# EAGLE library part Z8 (library oldchips)
8-bit MCU
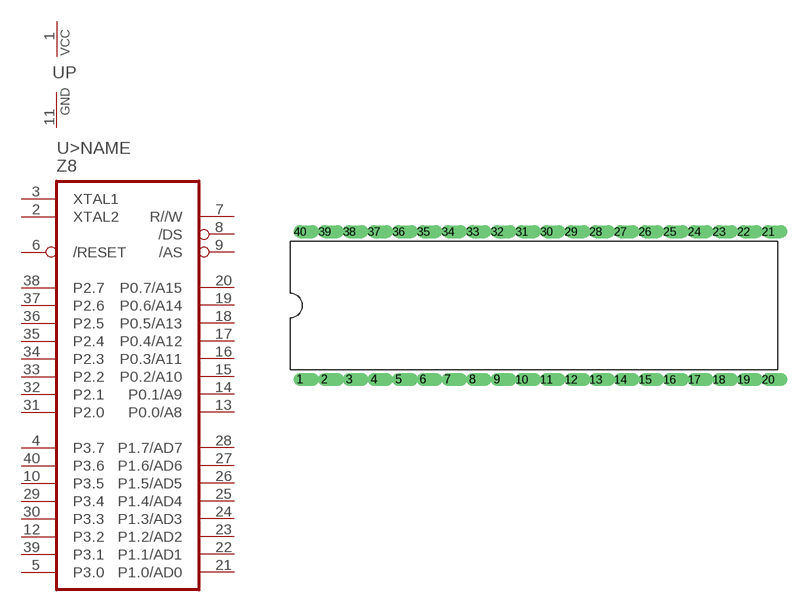
[diagram p10: symbol with the pads of DIL40; footprint DIL40]

Designator prefix U; gates >NAME=Z8 P=PWRN

## Z8  [DIL40]
1  P:VCC  pwr
2  >NAME:XTAL2  out
3  >NAME:XTAL1  in
4  >NAME:P3.7
5  >NAME:P3.0
6  >NAME:/RESET  in
7  >NAME:R//W  out
8  >NAME:/DS  out
9  >NAME:/AS  out
10  >NAME:P3.5
11  P:GND  pwr
12  >NAME:P3.2
13  >NAME:P0.0/A8
14  >NAME:P0.1/A9
15  >NAME:P0.2/A10
16  >NAME:P0.3/A11
17  >NAME:P0.4/A12
18  >NAME:P0.5/A13
19  >NAME:P0.6/A14
20  >NAME:P0.7/A15
21  >NAME:P1.0/AD0
22  >NAME:P1.1/AD1
23  >NAME:P1.2/AD2
24  >NAME:P1.3/AD3
25  >NAME:P1.4/AD4
26  >NAME:P1.5/AD5
27  >NAME:P1.6/AD6
28  >NAME:P1.7/AD7
29  >NAME:P3.4
30  >NAME:P3.3
31  >NAME:P2.0
32  >NAME:P2.1
33  >NAME:P2.2
34  >NAME:P2.3
35  >NAME:P2.4
36  >NAME:P2.5
37  >NAME:P2.6
38  >NAME:P2.7
39  >NAME:P3.1
40  >NAME:P3.6

## Footprint DIL40 (pad centres in mm)
Dual In Line
drill 0.813 offset: 1 -24.13,-7.62; 2 -21.59,-7.62; 3 -19.05,-7.62; 4 -16.51,-7.62; 5 -13.97,-7.62; 6 -11.43,-7.62; 7 -8.89,-7.62; 8 -6.35,-7.62; 9 -3.81,-7.62; 10 -1.27,-7.62; 11 1.27,-7.62; 12 3.81,-7.62; 13 6.35,-7.62; 14 8.89,-7.62; 15 11.43,-7.62; 16 13.97,-7.62; 17 16.51,-7.62; 18 19.05,-7.62; 19 21.59,-7.62; 20 24.13,-7.62; 21 24.13,7.62; 22 21.59,7.62; 23 19.05,7.62; 24 16.51,7.62; 25 13.97,7.62; 26 11.43,7.62; 27 8.89,7.62; 28 6.35,7.62; 29 3.81,7.62; 30 1.27,7.62; 31 -1.27,7.62; 32 -3.81,7.62; 33 -6.35,7.62; 34 -8.89,7.62; 35 -11.43,7.62; 36 -13.97,7.62; 37 -16.51,7.62; 38 -19.05,7.62; 39 -21.59,7.62; 40 -24.13,7.62